# Altium schematic symbol library STB45N65M5.SchLib: 1 symbol
Pins are listed as number, name and electrical type; pins without a type are passive.

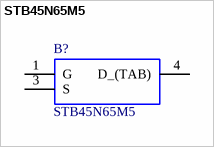
[diagram p0: symbol STB45N65M5]

## STB45N65M5
designator B?
Manufacturer_Name: STMicroelectronics; Allied_Number: 70390681; Geometry.Height: 4.6mm; Manufacturer_Part_Number: STB45N65M5; RS Part Number: 7832949; RS Price/Stock: *; Allied Price/Stock: http://www.alliedelec.com/stmicroelectronics-stb45n65m5/70390681/; Arrow Part Number: STB45N65M5; Arrow Price/Stock: *; Description: *; Datasheet Link: http://www.st.com/web/en/resource/technical/document/datasheet/DM00049184.pdf
footprint TO254P1542X460-3N
pins: 1 G, 3 S, 4 D_(TAB)